# Altium integrated library Altera Cyclone IV E.IntLib: 223 symbols (part 27 of 32)
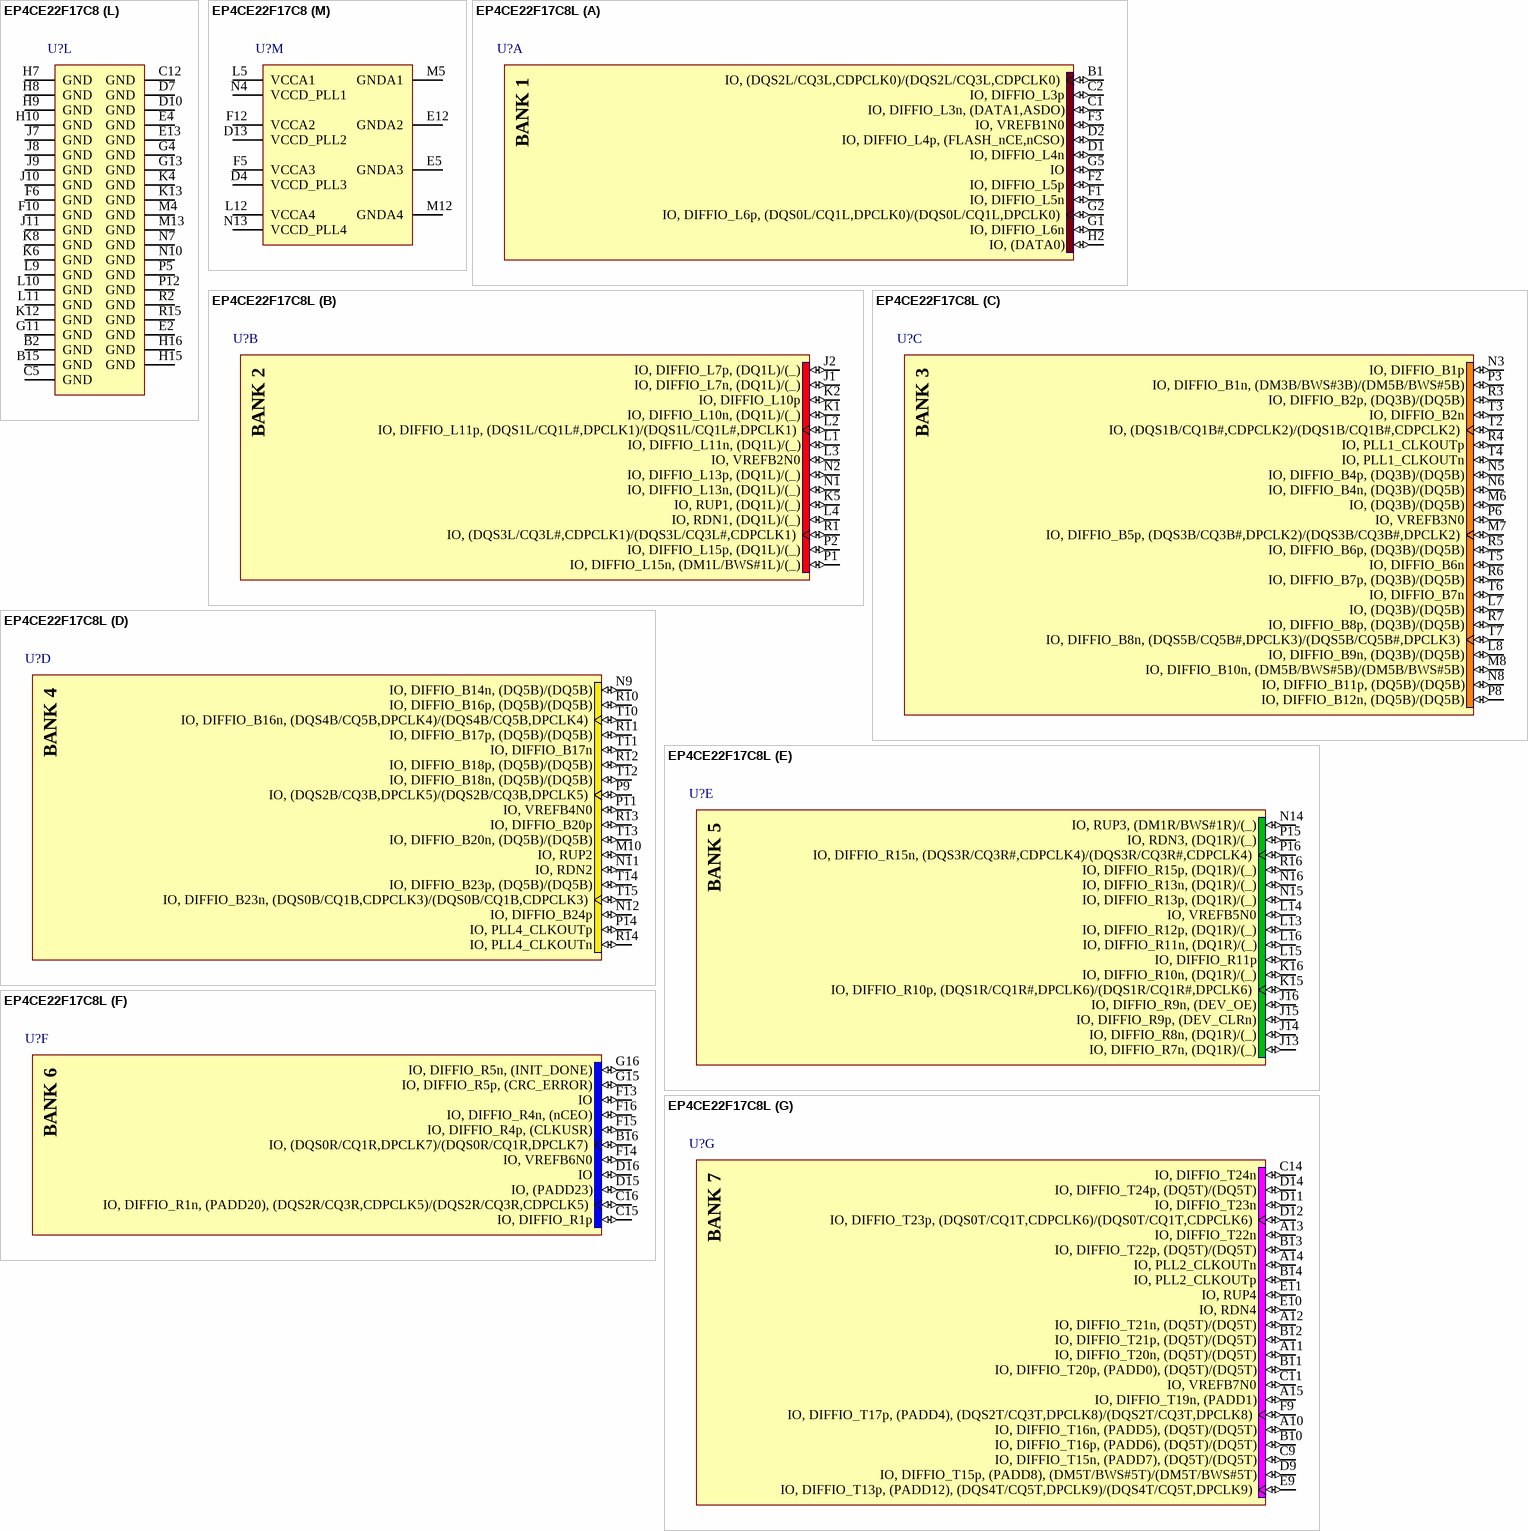
[diagram p515: symbols EP4CE22F17C8 to EP4CE22F17C8L]

## EP4CE22F17C8
designator U?
Cyclone IV Family FPGA, 1.2V Core, 153 I/O Pins, 4 PLLs, 256-Pin FBGA, Speed Grade 8, Commercial Grade; Manufacturer: Altera; DatasheetVersion: ver1.6, Nov-2011; PackageVersion: ver2.0, Nov-2011; PackageReference: FBGA256_A-155; PackageDescription: 256-Pin FineLine Ball-Grid Array (FBGA) - Thin - Wire Bond - A:1.55; Code_JEDEC: MO-192-DAF-1; ComponentLink1Description: Manufacturer URL; ComponentLink1URL: http://www.altera.com/; ComponentLink2Description: Handbook; ComponentLink2URL: http://www.altera.com/literature/hb/cyclone-iv/cyclone4-handbook.pdf; ComponentLink3Description: Pinout; ComponentLink3URL: http://www.altera.com/literature/lit-dp.jsp?category=cyc%204&showspreadsheet=y; ComponentLink4Description: Package Specification; ComponentLink4URL: http://www.altera.com/devicepackaging/04R00230-03.pdf
footprint FBGA256_A-155 (BGA, 256-Leads, Body 17x17mm, Pitch 1mm)
part A pins: B1 IO, (DQS2L/CQ3L,CDPCLK0)/(DQS2L/CQ3L,CDPCLK0) (io), C1 IO, DIFFIO_L3n, (DATA1,ASDO) (io), C2 IO, DIFFIO_L3p (io), D1 IO, DIFFIO_L4n (io), D2 IO, DIFFIO_L4p, (FLASH_nCE,nCSO) (io), F1 IO, DIFFIO_L5n (io), F2 IO, DIFFIO_L5p (io), F3 IO, VREFB1N0 (io), G1 IO, DIFFIO_L6n (io), G2 IO, DIFFIO_L6p, (DQS0L/CQ1L,DPCLK0)/(DQS0L/CQ1L,DPCLK0) (io), G5 IO (io), H2 IO, (DATA0) (io)
part B pins: J1 IO, DIFFIO_L7n, (DQ1L)/(_) (io), J2 IO, DIFFIO_L7p, (DQ1L)/(_) (io), K1 IO, DIFFIO_L10n, (DQ1L)/(_) (io), K2 IO, DIFFIO_L10p (io), K5 IO, RUP1, (DQ1L)/(_) (io), L1 IO, DIFFIO_L11n, (DQ1L)/(_) (io), L2 IO, DIFFIO_L11p, (DQS1L/CQ1L#,DPCLK1)/(DQS1L/CQ1L#,DPCLK1) (io), L3 IO, VREFB2N0 (io), L4 IO, RDN1, (DQ1L)/(_) (io), N1 IO, DIFFIO_L13n, (DQ1L)/(_) (io), N2 IO, DIFFIO_L13p, (DQ1L)/(_) (io), P1 IO, DIFFIO_L15n, (DM1L/BWS#1L)/(_) (io), P2 IO, DIFFIO_L15p, (DQ1L)/(_) (io), R1 IO, (DQS3L/CQ3L#,CDPCLK1)/(DQS3L/CQ3L#,CDPCLK1) (io)
part C pins: L7 IO, (DQ3B)/(DQ5B) (io), L8 IO, DIFFIO_B9n, (DQ3B)/(DQ5B) (io), M6 IO, (DQ3B)/(DQ5B) (io), M7 IO, DIFFIO_B5p, (DQS3B/CQ3B#,DPCLK2)/(DQS3B/CQ3B#,DPCLK2) (io), M8 IO, DIFFIO_B10n, (DM5B/BWS#5B)/(DM5B/BWS#5B) (io), N3 IO, DIFFIO_B1p (io), N5 IO, DIFFIO_B4p, (DQ3B)/(DQ5B) (io), N6 IO, DIFFIO_B4n, (DQ3B)/(DQ5B) (io), N8 IO, DIFFIO_B11p, (DQ5B)/(DQ5B) (io), P3 IO, DIFFIO_B1n, (DM3B/BWS#3B)/(DM5B/BWS#5B) (io), P6 IO, VREFB3N0 (io), P8 IO, DIFFIO_B12n, (DQ5B)/(DQ5B) (io), R3 IO, DIFFIO_B2p, (DQ3B)/(DQ5B) (io), R4 IO, PLL1_CLKOUTp (io), R5 IO, DIFFIO_B6p, (DQ3B)/(DQ5B) (io), R6 IO, DIFFIO_B7p, (DQ3B)/(DQ5B) (io), R7 IO, DIFFIO_B8p, (DQ3B)/(DQ5B) (io), T2 IO, (DQS1B/CQ1B#,CDPCLK2)/(DQS1B/CQ1B#,CDPCLK2) (io), T3 IO, DIFFIO_B2n (io), T4 IO, PLL1_CLKOUTn (io), T5 IO, DIFFIO_B6n (io), T6 IO, DIFFIO_B7n (io), T7 IO, DIFFIO_B8n, (DQS5B/CQ5B#,DPCLK3)/(DQS5B/CQ5B#,DPCLK3) (io)
part D pins: M10 IO, RUP2 (io), N9 IO, DIFFIO_B14n, (DQ5B)/(DQ5B) (io), N11 IO, RDN2 (io), N12 IO, DIFFIO_B24p (io), P9 IO, (DQS2B/CQ3B,DPCLK5)/(DQS2B/CQ3B,DPCLK5) (io), P11 IO, VREFB4N0 (io), P14 IO, PLL4_CLKOUTp (io), R10 IO, DIFFIO_B16p, (DQ5B)/(DQ5B) (io), R11 IO, DIFFIO_B17p, (DQ5B)/(DQ5B) (io), R12 IO, DIFFIO_B18p, (DQ5B)/(DQ5B) (io), R13 IO, DIFFIO_B20p (io), R14 IO, PLL4_CLKOUTn (io), T10 IO, DIFFIO_B16n, (DQS4B/CQ5B,DPCLK4)/(DQS4B/CQ5B,DPCLK4) (io), T11 IO, DIFFIO_B17n (io), T12 IO, DIFFIO_B18n, (DQ5B)/(DQ5B) (io), T13 IO, DIFFIO_B20n, (DQ5B)/(DQ5B) (io), T14 IO, DIFFIO_B23p, (DQ5B)/(DQ5B) (io), T15 IO, DIFFIO_B23n, (DQS0B/CQ1B,CDPCLK3)/(DQS0B/CQ1B,CDPCLK3) (io)
part E pins: J13 IO, DIFFIO_R7n, (DQ1R)/(_) (io), J14 IO, DIFFIO_R8n, (DQ1R)/(_) (io), J15 IO, DIFFIO_R9p, (DEV_CLRn) (io), J16 IO, DIFFIO_R9n, (DEV_OE) (io), K15 IO, DIFFIO_R10p, (DQS1R/CQ1R#,DPCLK6)/(DQS1R/CQ1R#,DPCLK6) (io), K16 IO, DIFFIO_R10n, (DQ1R)/(_) (io), L13 IO, DIFFIO_R12p, (DQ1R)/(_) (io), L14 IO, VREFB5N0 (io), L15 IO, DIFFIO_R11p (io), L16 IO, DIFFIO_R11n, (DQ1R)/(_) (io), N14 IO, RUP3, (DM1R/BWS#1R)/(_) (io), N15 IO, DIFFIO_R13p, (DQ1R)/(_) (io), N16 IO, DIFFIO_R13n, (DQ1R)/(_) (io), P15 IO, RDN3, (DQ1R)/(_) (io), P16 IO, DIFFIO_R15n, (DQS3R/CQ3R#,CDPCLK4)/(DQS3R/CQ3R#,CDPCLK4) (io), R16 IO, DIFFIO_R15p, (DQ1R)/(_) (io)
part F pins: B16 IO, (DQS0R/CQ1R,DPCLK7)/(DQS0R/CQ1R,DPCLK7) (io), C15 IO, DIFFIO_R1p (io), C16 IO, DIFFIO_R1n, (PADD20), (DQS2R/CQ3R,CDPCLK5)/(DQS2R/CQ3R,CDPCLK5) (io), D15 IO, (PADD23) (io), D16 IO (io), F13 IO (io), F14 IO, VREFB6N0 (io), F15 IO, DIFFIO_R4p, (CLKUSR) (io), F16 IO, DIFFIO_R4n, (nCEO) (io), G15 IO, DIFFIO_R5p, (CRC_ERROR) (io), G16 IO, DIFFIO_R5n, (INIT_DONE) (io)
part G pins: A10 IO, DIFFIO_T16n, (PADD5), (DQ5T)/(DQ5T) (io), A11 IO, DIFFIO_T20n, (DQ5T)/(DQ5T) (io), A12 IO, DIFFIO_T21n, (DQ5T)/(DQ5T) (io), A13 IO, DIFFIO_T22n (io), A14 IO, PLL2_CLKOUTn (io), A15 IO, DIFFIO_T19n, (PADD1) (io), B10 IO, DIFFIO_T16p, (PADD6), (DQ5T)/(DQ5T) (io), B11 IO, DIFFIO_T20p, (PADD0), (DQ5T)/(DQ5T) (io), B12 IO, DIFFIO_T21p, (DQ5T)/(DQ5T) (io), B13 IO, DIFFIO_T22p, (DQ5T)/(DQ5T) (io), B14 IO, PLL2_CLKOUTp (io), C9 IO, DIFFIO_T15n, (PADD7), (DQ5T)/(DQ5T) (io), C11 IO, VREFB7N0 (io), C14 IO, DIFFIO_T24n (io), D9 IO, DIFFIO_T15p, (PADD8), (DM5T/BWS#5T)/(DM5T/BWS#5T) (io), D11 IO, DIFFIO_T23n (io), D12 IO, DIFFIO_T23p, (DQS0T/CQ1T,CDPCLK6)/(DQS0T/CQ1T,CDPCLK6) (io), D14 IO, DIFFIO_T24p, (DQ5T)/(DQ5T) (io), E9 IO, DIFFIO_T13p, (PADD12), (DQS4T/CQ5T,DPCLK9)/(DQS4T/CQ5T,DPCLK9) (io), E10 IO, RDN4 (io), E11 IO, RUP4 (io), F9 IO, DIFFIO_T17p, (PADD4), (DQS2T/CQ3T,DPCLK8)/(DQS2T/CQ3T,DPCLK8) (io)
part H pins: A2 IO, DIFFIO_T2n (io), A3 IO, DIFFIO_T2p (io), A4 IO, DIFFIO_T3n, (DATA10), (DM3T/BWS#3T)/(DM5T/BWS#5T) (io), A5 IO, DIFFIO_T5n, (DATA7), (DQ3T)/(DQ5T) (io), A6 IO, DIFFIO_T7n, (DATA14), (DQS3T/CQ3T#,DPCLK11)/(DQS3T/CQ3T#,DPCLK11) (io), A7 IO, DIFFIO_T9n, (PADD18), (DQ3T)/(DQ5T) (io), B3 IO, (DATA12), (DQS1T/CQ1T#,CDPCLK7)/(DQS1T/CQ1T#,CDPCLK7) (io), B4 IO, DIFFIO_T3p, (DATA11) (io), B5 IO, DIFFIO_T5p, (DATA8), (DQ3T)/(DQ5T) (io), B6 IO, DIFFIO_T7p, (DATA13), (DQ3T)/(DQ5T) (io), B7 IO, DIFFIO_T9p, (DATA4), (DQ3T)/(DQ5T) (io), C3 IO, PLL3_CLKOUTn (io), C6 IO, VREFB8N0 (io), C8 IO, DIFFIO_T11p, (PADD17), (DQS5T/CQ5T#,DPCLK10)/(DQS5T/CQ5T#,DPCLK10) (io), D3 IO, PLL3_CLKOUTp (io), D5 IO (io), D6 IO, DIFFIO_T4n, (DATA9) (io), D8 IO, (DQ3T)/(DQ5T) (io), E6 IO, DIFFIO_T6p, (DATA6), (DQ3T)/(DQ5T) (io), E7 IO, (DATA5), (DQ3T)/(DQ5T) (io), E8 IO, DIFFIO_T10n, (DATA2), (DQ3T)/(DQ5T) (io), F8 IO, DIFFIO_T10p, (DATA3) (io)
part I pins: A8 CLK10, DIFFCLK_4n (in), A9 CLK8, DIFFCLK_5n (in), B8 CLK11, DIFFCLK_4p (in), B9 CLK9, DIFFCLK_5p (in), E1 CLK1, DIFFCLK_0n (in), E15 CLK4, DIFFCLK_2p (in), E16 CLK5, DIFFCLK_2n (in), M1 CLK3, DIFFCLK_1n (in), M2 CLK2, DIFFCLK_1p (in), M15 CLK6, DIFFCLK_3p (in), M16 CLK7, DIFFCLK_3n (in), R8 CLK15, DIFFCLK_6p (in), R9 CLK13, DIFFCLK_7p (in), T8 CLK14, DIFFCLK_6n (in), T9 CLK12, DIFFCLK_7n (in)
part J pins: F4 nSTATUS (io), G12 MSEL2 (in), H1 DCLK (io), H3 TCK (in), H4 TDI (in), H5 nCONFIG (in), H12 MSEL1 (in), H13 MSEL0 (in), H14 CONF_DONE (io), J3 nCE (in), J4 TDO (out), J5 TMS (in)
part K pins: A1 VCCIO8 (power), A16 VCCIO7 (power), C4 VCCIO8 (power), C7 VCCIO8 (power), C10 VCCIO7 (power), C13 VCCIO7 (power), E3 VCCIO1 (power), E14 VCCIO6 (power), F7 VCCINT (power), F11 VCCINT (power), G3 VCCIO1 (power), G6 VCCINT (power), G7 VCCINT (power), G8 VCCINT (power), G9 VCCINT (power), G10 VCCINT (power), G14 VCCIO6 (power), H6 VCCINT (power), H11 VCCINT (power), J6 VCCINT (power), J12 VCCINT (power), K3 VCCIO2 (power), K7 VCCINT (power), K9 VCCINT (power), K10 VCCINT (power), K11 VCCINT (power), K14 VCCIO5 (power), L6 VCCINT (power), M3 VCCIO2 (power), M9 VCCINT (power), M11 VCCINT (power), M14 VCCIO5 (power), P4 VCCIO3 (power), P7 VCCIO3 (power), P10 VCCIO4 (power), P13 VCCIO4 (power), T1 VCCIO3 (power), T16 VCCIO4 (power)
part L pins: B2 GND (power), B15 GND (power), C5 GND (power), C12 GND (power), D7 GND (power), D10 GND (power), E2 GND (power), E4 GND (power), E13 GND (power), F6 GND (power), F10 GND (power), G4 GND (power), G11 GND (power), G13 GND (power), H7 GND (power), H8 GND (power), H9 GND (power), H10 GND (power), H15 GND (power), H16 GND (power), J7 GND (power), J8 GND (power), J9 GND (power), J10 GND (power), J11 GND (power), K4 GND (power), K6 GND (power), K8 GND (power), K12 GND (power), K13 GND (power), L9 GND (power), L10 GND (power), L11 GND (power), M4 GND (power), M13 GND (power), N7 GND (power), N10 GND (power), P5 GND (power), P12 GND (power), R2 GND (power), R15 GND (power)
part M pins: D4 VCCD_PLL3 (power), D13 VCCD_PLL2 (power), E5 GNDA3 (power), E12 GNDA2 (power), F5 VCCA3 (power), F12 VCCA2 (power), L5 VCCA1 (power), L12 VCCA4 (power), M5 GNDA1 (power), M12 GNDA4 (power), N4 VCCD_PLL1 (power), N13 VCCD_PLL4 (power)
part A text: BANK 1
part B text: BANK 2
part C text: BANK 3
part D text: BANK 4
part E text: BANK 5
part F text: BANK 6
part G text: BANK 7
part H text: BANK 8

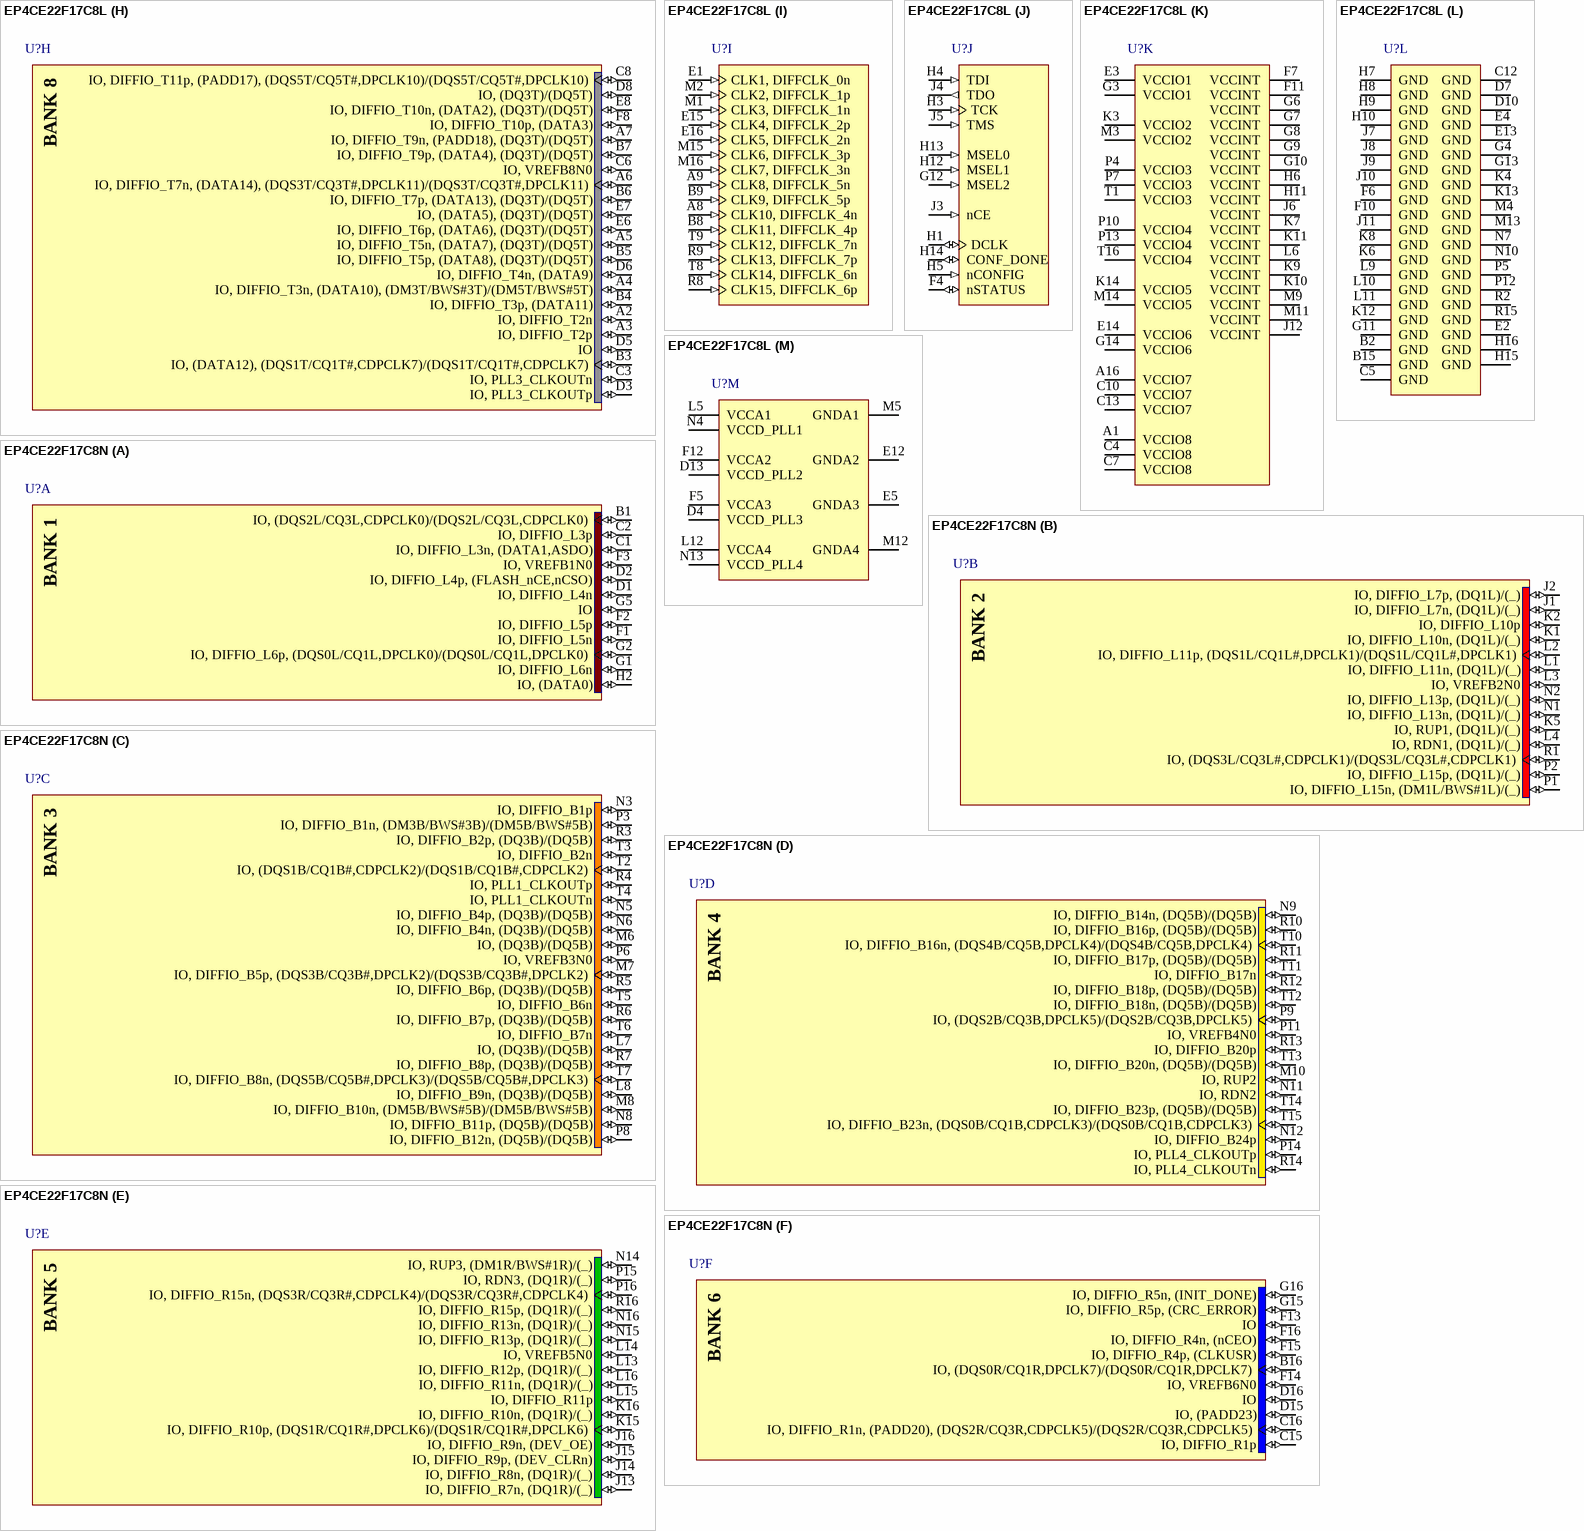
[diagram p118: symbols EP4CE22F17C8L to EP4CE22F17C8N]